# Altium schematic symbol library LM2904DR2G.Schlib: 1 symbol
Pins are listed as number, name and electrical type; pins without a type are passive.

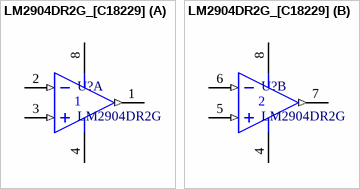
[diagram p0: symbol LM2904DR2G_[C18229]]

## LM2904DR2G_[C18229]
designator U?, comment LM2904DR2G
运放
footprint SOIC-8_150mil
pins on every part: 4 V- (power), 8 V+ (power)
part A pins: 1 OUT (out), 2 IN- (in), 3 IN+ (in)
part B pins: 5 IN+ (in), 6 IN- (in), 7 OUT (out)